# EAGLE library part FLAT-FLEX-CONNECTOR-VERT-16POS (library FlashPCB_Connectors)
FLAT-FLEX-CONNECTOR-VERT-16POS - Flat Flex Connector 16 position Vertical Technical Specifications: Number of Positions: 16 Contact: One Side Mount: Vertical
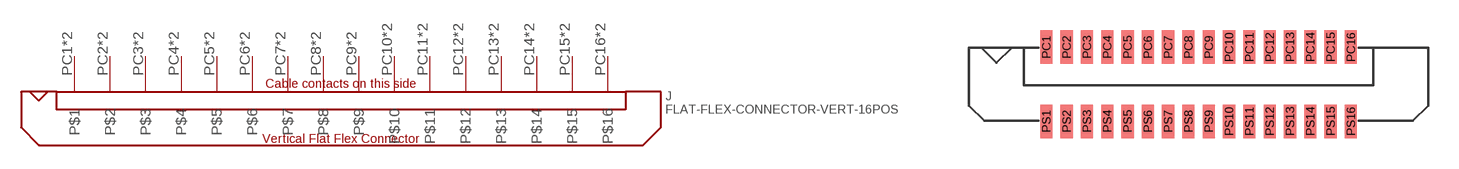
[diagram p128: symbol with the pads of FLAT-FLEX-CONNECTOR-MOLEX-52610-VERT-16POS; footprint FLAT-FLEX-CONNECTOR-MOLEX-52610-VERT-16POS]

Designator prefix J

## FLAT-FLEX-CONNECTOR-VERT-16POS1MM-PITCH  [FLAT-FLEX-CONNECTOR-MOLEX-52610-VERT-16POS]
PC1  P$1
PC2  P$2
PC3  P$3
PC4  P$4
PC5  P$5
PC6  P$6
PC7  P$7
PC8  P$8
PC9  P$9
PC10  P$10
PC11  P$11
PC12  P$12
PC13  P$13
PC14  P$14
PC15  P$15
PC16  P$16
PS1  P$1
PS2  P$2
PS3  P$3
PS4  P$4
PS5  P$5
PS6  P$6
PS7  P$7
PS8  P$8
PS9  P$9
PS10  P$10
PS11  P$11
PS12  P$12
PS13  P$13
PS14  P$14
PS15  P$15
PS16  P$16

## Footprint FLAT-FLEX-CONNECTOR-MOLEX-52610-VERT-16POS (pad centres in mm)
smd 0.6 x 1.65: PC1 -7.5,1.825; PC2 -6.5,1.825; PC3 -5.5,1.825; PC4 -4.5,1.825; PC5 -3.5,1.825; PC6 -2.5,1.825; PC7 -1.5,1.825; PC8 -0.5,1.825; PC9 0.5,1.825; PC10 1.5,1.825; PC11 2.5,1.825; PC12 3.5,1.825; PC13 4.5,1.825; PC14 5.5,1.825; PC15 6.5,1.825; PC16 7.5,1.825; PS1 -7.5,-1.825; PS2 -6.5,-1.825; PS3 -5.5,-1.825; PS4 -4.5,-1.825; PS5 -3.5,-1.825; PS6 -2.5,-1.825; PS7 -1.5,-1.825; PS8 -0.5,-1.825; PS9 0.5,-1.825; PS10 1.5,-1.825; PS11 2.5,-1.825; PS12 3.5,-1.825; PS13 4.5,-1.825; PS14 5.5,-1.825; PS15 6.5,-1.825; PS16 7.5,-1.825